# EAGLE library part LASCAR_LCD (library jason-test)
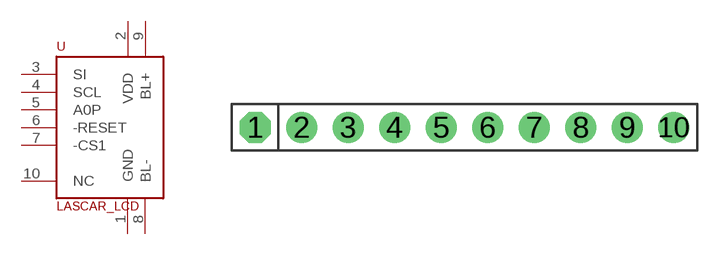
[diagram p21: symbol with the pads of 10X1LCD; footprint 10X1LCD]

Designator prefix -

## LASCAR_LCD  [10X1LCD]
1  GND  pwr
2  VDD  pwr
3  SI
4  SCL  in
5  A0P  in
6  -RESET  in
7  -CS1  in
8  BL-  pwr
9  BL+  pwr
10  NC  pas

## Footprint 10X1LCD (pad centres in mm)
drill 1 pad 1.676 octagon: 1 -11.43,0
drill 1 pad 1.676 round: 2 -8.89,0; 3 -6.35,0; 4 -3.81,0; 5 -1.27,0; 6 1.27,0; 7 3.81,0; 8 6.35,0; 9 8.89,0; 10 11.43,0